# Altium footprint library PcbLib1.PcbLib: 12 footprints (part 3 of 3)
Each footprint in its own frame and in the unit in brackets; x right, y up, seen from the top. Pads: shape width x height; smd on the part's side, far side on the other; paste and mask are expansions set on the pad; w line width, h text height; cw(c..) or ccw(c..) is an arc to the next point about the centre after c.
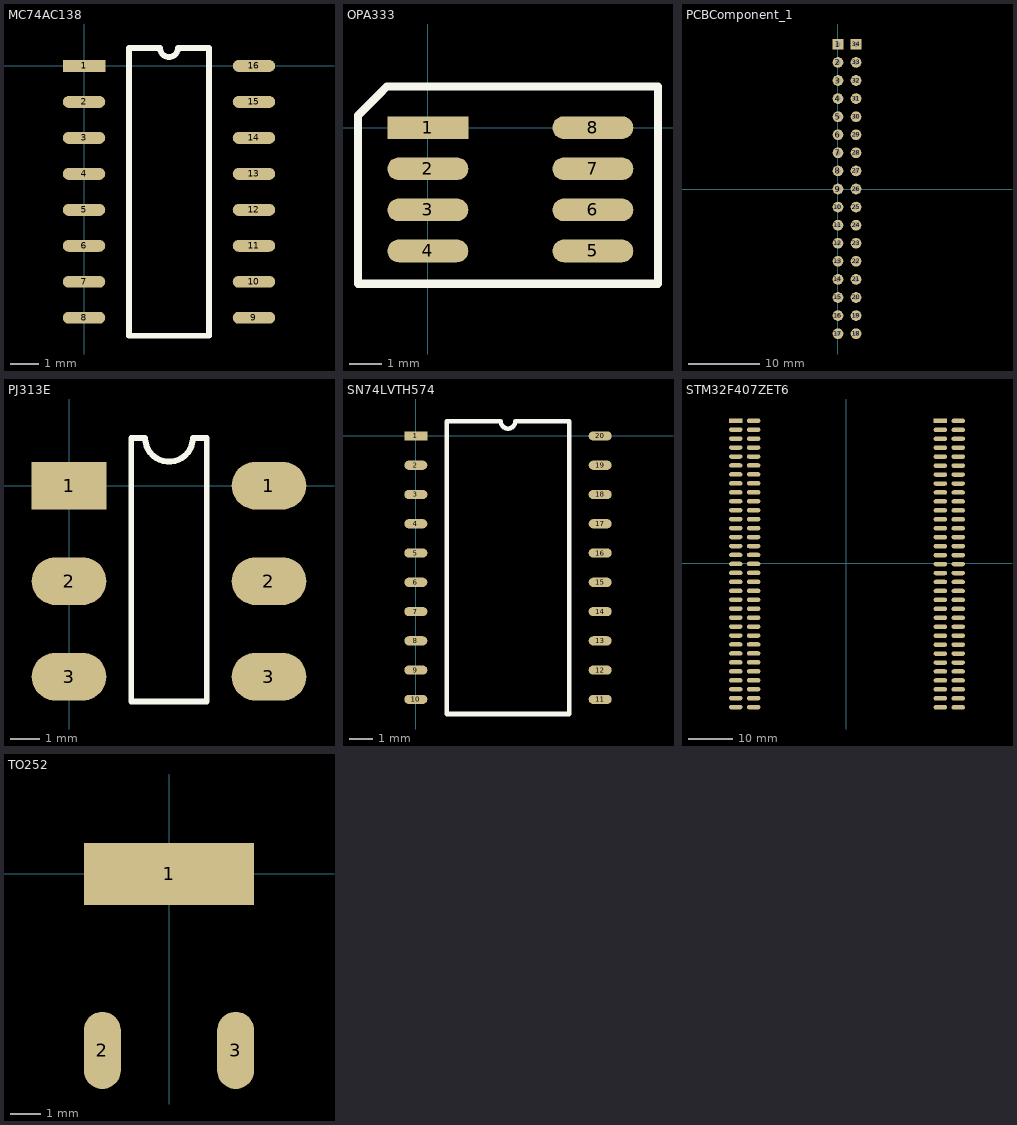
[diagram p2: the footprints below, top view; thin cyan lines are the x and y axes]

## MC74AC138 [mm]
pads (16):
  rect 1.5x0.42 smd: 1(0,0)
  oval 1.5x0.42 smd: 2(0,-1.27) 3(0,-2.54) 4(0,-3.81) 5(0,-5.08) 6(0,-6.35) 7(0,-7.62) 8(0,-8.89) 9(6,-8.89) 10(6,-7.62) 11(6,-6.35) 12(6,-5.08) 13(6,-3.81) 14(6,-2.54) 15(6,-1.27) 16(6,0)
Top Overlay:
  lines w0.2: 1.585,-9.525 4.415,-9.525 4.415,0.635 3.317,0.635 cw(c3,0.635) 2.682,0.635 1.585,0.635 1.585,-9.525

## OPA333 [mm]
pads (8):
  rect 2.5x0.7 smd: 1(0,0)
  oval 2.5x0.7 smd: 2(0,-1.27) 3(0,-2.54) 4(0,-3.81) 5(5.1,-3.81) 6(5.1,-2.54) 7(5.1,-1.27) 8(5.1,0)
Top Overlay:
  lines w0.254: -2.159,-4.826 -1.778,-4.826 7.112,-4.826 7.112,1.27 -1.27,1.27 -1.524,1.016 -2.159,0.381 -2.159,-4.826

## PCBComponent_1 [mm]
pads (34):
  rect 1.5x1.5 hole 0.7: 1(0,20.32) 34(2.54,20.32)
  round 1.5 hole 0.7: 2(0,17.78) 3(0,15.24) 4(0,12.7) 5(0,10.16) 6(0,7.62) 7(0,5.08) 8(0,2.54) 9(0,0) 10(0,-2.54) 11(0,-5.08) 12(0,-7.62) 13(0,-10.16) 14(0,-12.7) 15(0,-15.24) 16(0,-17.78) 17(0,-20.32) 18(2.54,-20.32) 19(2.54,-17.78) 20(2.54,-15.24) 21(2.54,-12.7) 22(2.54,-10.16) 23(2.54,-7.62) 24(2.54,-5.08) 25(2.54,-2.54) 26(2.54,0) 27(2.54,2.54) 28(2.54,5.08) 29(2.54,7.62) 30(2.54,10.16) 31(2.54,12.7) 32(2.54,15.24) 33(2.54,17.78)

## PJ313E [mm]
pads (6):
  rect 2.5x1.6 smd: 1(0,0)
  oval 2.5x1.6 smd: 1(6.7,0) 2(0,-3.2) 2(6.7,-3.2) 3(0,-6.4) 3(6.7,-6.4)
Top Overlay:
  lines w0.2: 2.085,-7.239 4.615,-7.239 4.615,1.6 4.15,1.6 cw(c3.35,1.6) 2.55,1.6 2.085,1.6 2.085,-7.239

## SN74LVTH574 [mm]
pads (20):
  rect 1x0.4 smd: 1(0,0)
  oval 1x0.4 smd: 2(0,-1.27) 3(0,-2.54) 4(0,-3.81) 5(0,-5.08) 6(0,-6.35) 7(0,-7.62) 8(0,-8.89) 9(0,-10.16) 10(0,-11.43) 11(8,-11.43) 12(8,-10.16) 13(8,-8.89) 14(8,-7.62) 15(8,-6.35) 16(8,-5.08) 17(8,-3.81) 18(8,-2.54) 19(8,-1.27) 20(8,0)
Top Overlay:
  lines w0.2: 1.335,-12.065 6.665,-12.065 6.665,0.635 4.317,0.635 cw(c4,0.635) 3.682,0.635 1.335,0.635 1.335,-12.065

## STM32F407ZET6 [mm]
pads (132):
  rect 3x1 smd: 1(-24.638,31.877) 67(21.082,31.845)
  oval 3x1 smd: 2(-24.638,29.877) 3(-24.638,27.877) 4(-24.638,25.877) 5(-24.638,23.877) 6(-24.638,21.877) 7(-24.638,19.877) 8(-24.638,17.877) 9(-24.638,15.877) 10(-24.638,13.877) 11(-24.638,11.877) 12(-24.638,9.877) 13(-24.638,7.877) 14(-24.638,5.877) 15(-24.638,3.877) 16(-24.638,1.877) 17(-24.638,-0.123) 18(-24.638,-2.123) 19(-24.638,-4.123) 20(-24.638,-6.123) 21(-24.638,-8.123) 22(-24.638,-10.123) 23(-24.638,-12.123) 24(-24.638,-14.123) 25(-24.638,-16.123) 26(-24.638,-18.123) 27(-24.638,-20.123) 28(-24.638,-22.123) 29(-24.638,-24.123) 30(-24.638,-26.123) 31(-24.638,-28.123) 32(-24.638,-30.123) 33(-24.638,-32.123) 34(-20.638,-32.123) 35(-20.638,-30.123) 36(-20.638,-28.123) 37(-20.638,-26.123) 38(-20.638,-24.123) 39(-20.638,-22.123) 40(-20.638,-20.123) 41(-20.638,-18.123) 42(-20.638,-16.123) 43(-20.638,-14.123) 44(-20.638,-12.123) 45(-20.638,-10.123) 46(-20.638,-8.123) 47(-20.638,-6.123) 48(-20.638,-4.123) 49(-20.638,-2.123) 50(-20.638,-0.123) 51(-20.638,1.877) 52(-20.638,3.877) 53(-20.638,5.877) 54(-20.638,7.877) 55(-20.638,9.877) 56(-20.638,11.877) 57(-20.638,13.877) 58(-20.638,15.877) 59(-20.638,17.877) 60(-20.638,19.877) 61(-20.638,21.877) 62(-20.638,23.877) 63(-20.638,25.877) 64(-20.638,27.877) 65(-20.638,29.877) 66(-20.638,31.877) 68(21.082,29.845) 69(21.082,27.845) 70(21.082,25.845) 71(21.082,23.845) 72(21.082,21.845) 73(21.082,19.845) 74(21.082,17.845) 75(21.082,15.845) 76(21.082,13.845) 77(21.082,11.845) 78(21.082,9.845) 79(21.082,7.845) 80(21.082,5.845) 81(21.082,3.845) 82(21.082,1.845) 83(21.082,-0.155) 84(21.082,-2.155) 85(21.082,-4.155) 86(21.082,-6.155) 87(21.082,-8.155) 88(21.082,-10.155) 89(21.082,-12.155) 90(21.082,-14.155) 91(21.082,-16.155) 92(21.082,-18.155) 93(21.082,-20.155) 94(21.082,-22.155) 95(21.082,-24.155) 96(21.082,-26.155) 97(21.082,-28.155) 98(21.082,-30.155) 99(21.082,-32.155) 100(25.082,-32.155) 101(25.082,-30.155) 102(25.082,-28.155) 103(25.082,-26.155) 104(25.082,-24.155) 105(25.082,-22.155) 106(25.082,-20.155) 107(25.082,-18.155) 108(25.082,-16.155) 109(25.082,-14.155) 110(25.082,-12.155) 111(25.082,-10.155) 112(25.082,-8.155) 113(25.082,-6.155) 114(25.082,-4.155) 115(25.082,-2.155) 116(25.082,-0.155) 117(25.082,1.845) 118(25.082,3.845) 119(25.082,5.845) 120(25.082,7.845) 121(25.082,9.845) 122(25.082,11.845) 123(25.082,13.845) 124(25.082,15.845) 125(25.082,17.845) 126(25.082,19.845) 127(25.082,21.845) 128(25.082,23.845) 129(25.082,25.845) 130(25.082,27.845) 131(25.082,29.845) 132(25.082,31.845)

## TO252 [mm]
pads (3):
  rect 5.5x2 smd: 1(0,0)
  oval 1.2x2.5 smd: 2(-2.159,-5.715) 3(2.159,-5.715)